# Altium footprint library SnapEDApcb.PcbLib: 1 footprints
Each footprint in its own frame and in the unit in brackets; x right, y up, seen from the top. Pads: shape width x height; smd on the part's side, far side on the other; paste and mask are expansions set on the pad; w line width, h text height; cw(c..) or ccw(c..) is an arc to the next point about the centre after c.
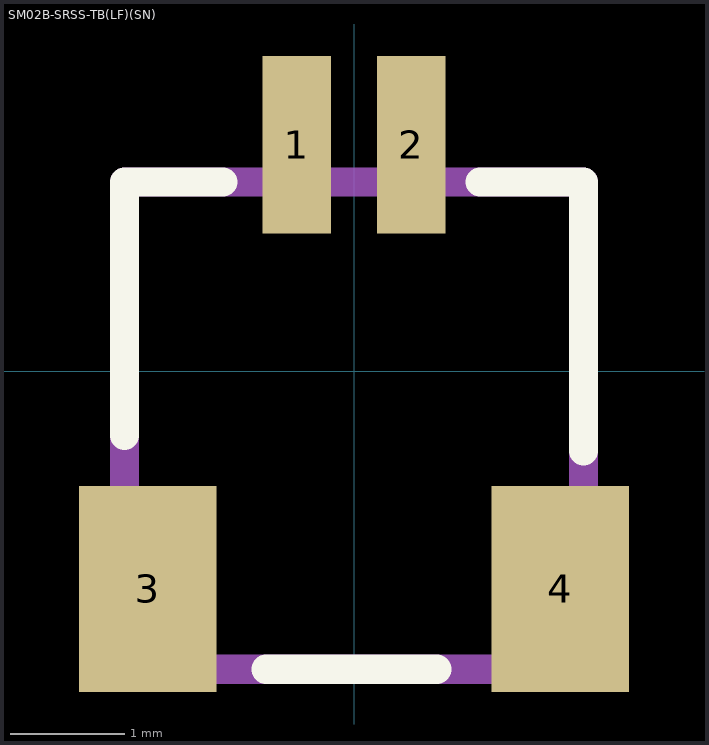
[diagram p0: the footprint, top view; thin cyan lines are the x and y axes]

## SM02B-SRSS-TB(LF)(SN) [mm]
pads (4):
  rect 0.6x1.55 smd: 1(-0.5,1.975) 2(0.5,1.975)
  rect 1.2x1.8 smd: 3(-1.8,-1.9) 4(1.8,-1.9)
Top Overlay:
  lines w0.254: -2,-0.563 -2,1.65 -1.145,1.65 ; -0.767,-2.6 0.722,-2.6 ; 1.1,1.65 2,1.65 2,-0.697
Mechanical 13:
  lines w0.254: -2,-2.6 -2,1.65 2,1.65 2,-2.6 -2,-2.6